# Altium footprint library LED+.PcbLib: 1 footprints
Each footprint in its own frame and in the unit in brackets; x right, y up, seen from the top. Pads: shape width x height; smd on the part's side, far side on the other; paste and mask are expansions set on the pad; w line width, h text height; cw(c..) or ccw(c..) is an arc to the next point about the centre after c.
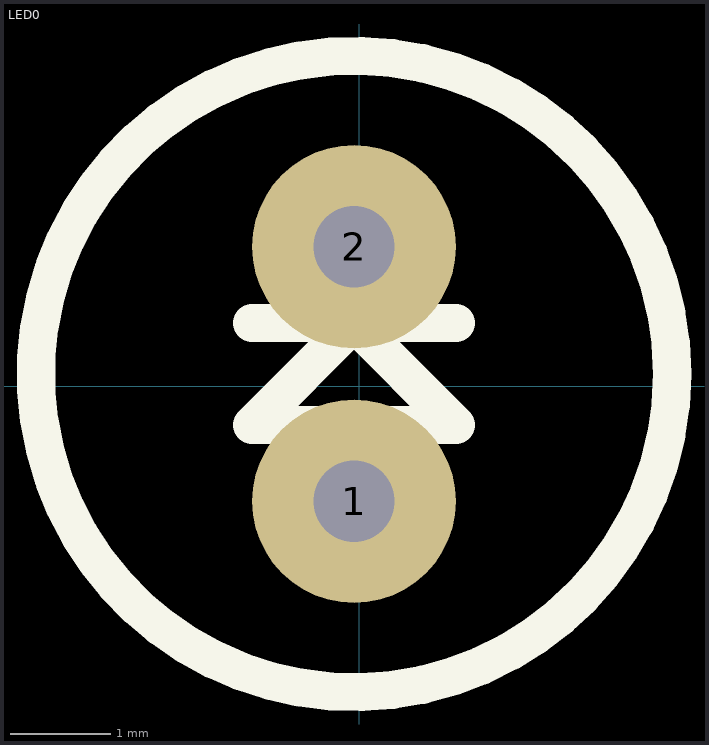
[diagram p0: the footprint, top view; thin cyan lines are the x and y axes]

## LED0 [mil]
pads (2):
  round 80 hole 32: 1(-2.05,-45.2) 2(-2.05,54.8)
Top Overlay:
  circle w15: c-2.05,4.8 r125
  lines w15: -42.05,24.8 37.95,24.8 ; -42.05,-15.2 -2.05,24.8 37.95,-15.2 -42.05,-15.2